# Altium footprint library SMPS150.PcbLib: 39 footprints (part 2 of 3)
Each footprint in its own frame and in the unit in brackets; x right, y up, seen from the top. Pads: shape width x height; smd on the part's side, far side on the other; paste and mask are expansions set on the pad; w line width, h text height; cw(c..) or ccw(c..) is an arc to the next point about the centre after c.
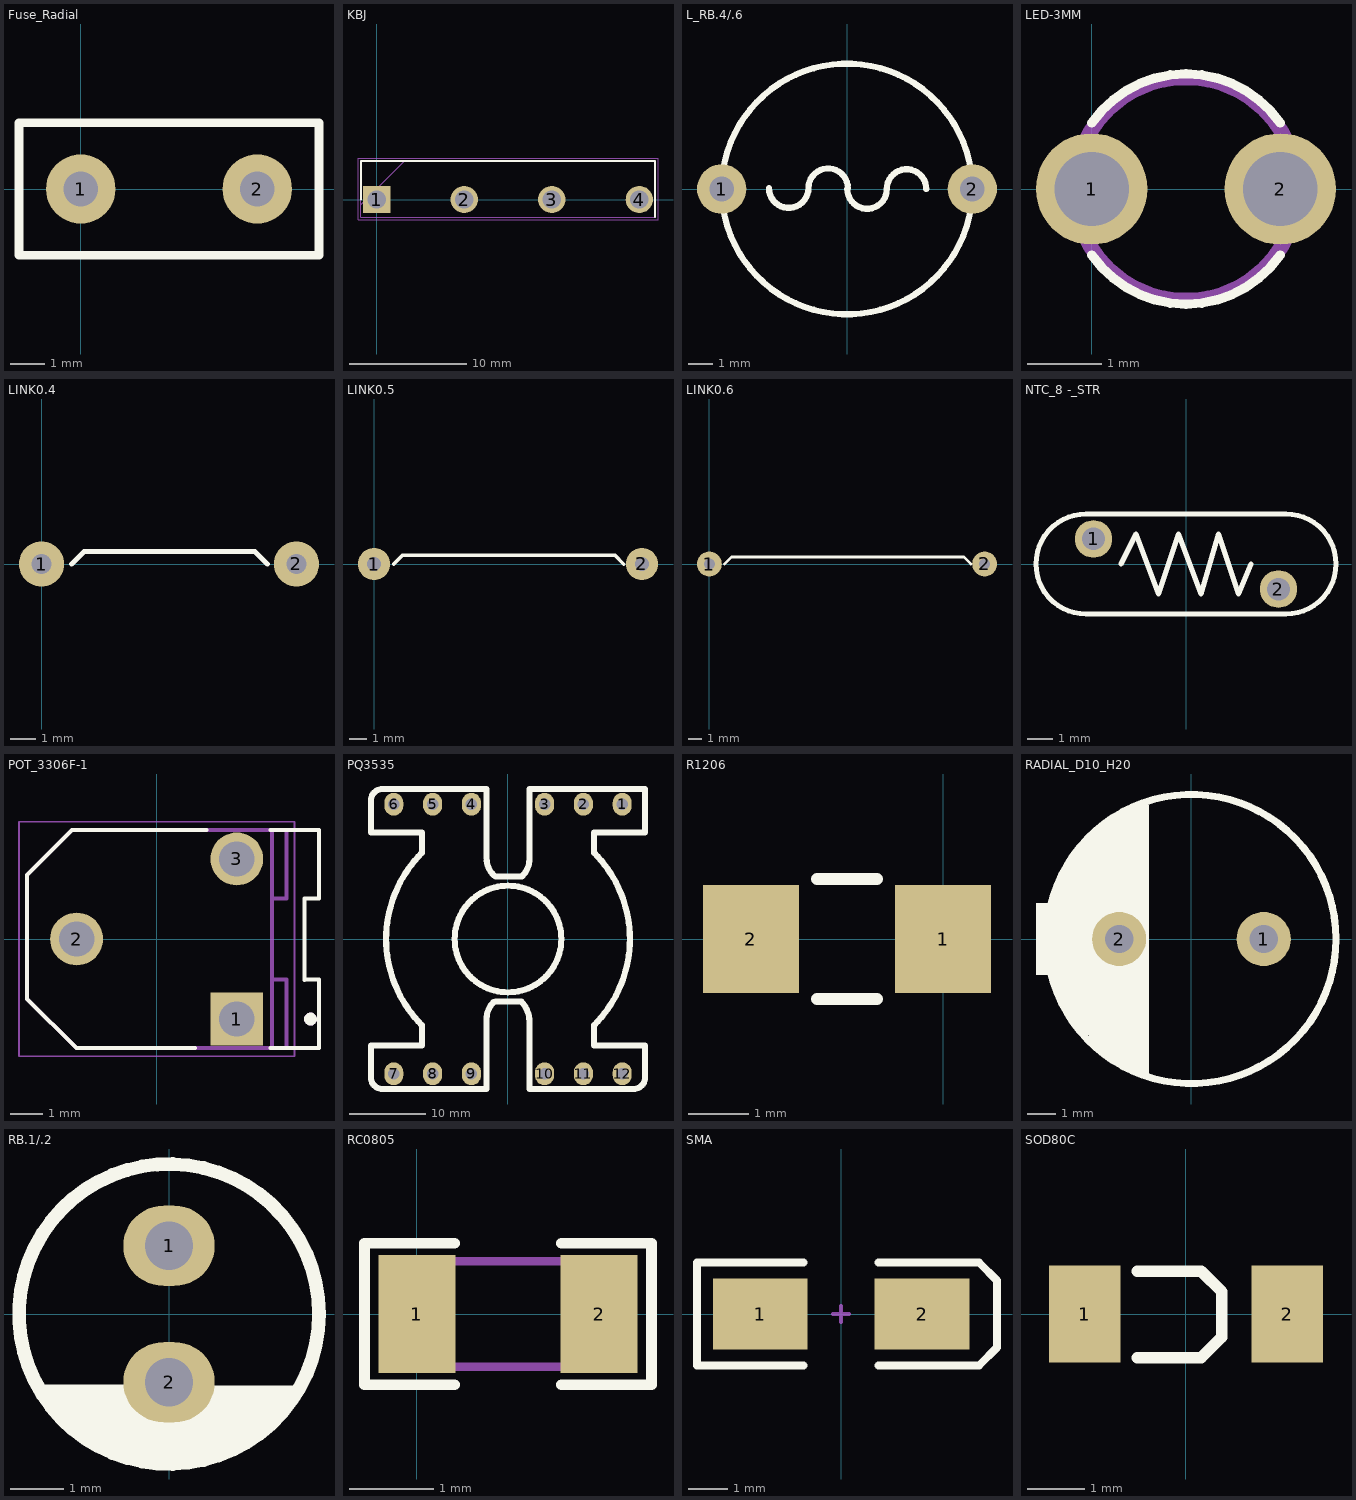
[diagram p1: the footprints below, top view; thin cyan lines are the x and y axes]

## Fuse_Radial [mm]
pads (2):
  round 2 hole 1: 1(0,0) 2(5.08,0)
Top Overlay:
  lines w0.254: -1.778,-1.905 6.858,-1.905 6.858,1.905 -1.778,1.905 -1.778,-1.905
3D body "Fuse 508 v1.step": height 3.5, standoff -8.3, extent -1.16,-2 6.24,2

## KBJ [mm]
height 1.35
pads (4):
  rect 2.34x2.34 hole 1.56: 1(0,0)
  round 2.34 hole 1.56: 2(7.5,0) 3(15,0) 4(22.5,0)
Top Overlay:
  lines w0.2: -1.35,0 -1.35,3.3 23.85,3.3 23.85,-1.5
Mechanical 13:
  lines w0.1: -1.35,-0.45 2.4,3.3 ; -1.35,-1.5 -1.35,3.3 23.85,3.3 23.85,-1.5 -1.35,-1.5
Mechanical 15:
  lines w0.05: -1.6,-1.75 -1.6,3.55 24.1,3.55 24.1,-1.75 -1.6,-1.75
3D body "User Library-KBJ.step": height 18.5, standoff -14, extent -1.324,-2.3 23.676,2.3

## L_RB.4/.6 [mm]
height 1.35
pads (2):
  round 2 hole 1: 1(-5.08,0) 2(5.08,0)
Top Overlay:
  circle w0.254: c0,0 r5.08
  lines w0.254: -3.164,0.033 ccw(c-2.364,0.033) -1.564,0.033 cw(c-0.764,0.033) 0.036,0.033 ; 0.013,0 ccw(c0.813,0) 1.613,0 cw(c2.413,0) 3.213,0

## LED-3MM [mm]
pads (2):
  round 1.5 hole 1: 1(0,0) 2(2.54,0)
Top Overlay:
  lines w0.127: 0,-0.889 ccw(c1.27,0) 2.54,-0.889 ; 0,0.889 cw(c1.27,0) 2.54,0.889
Mechanical 13:
  lines w0.2: -0.23,0 cw(c1.27,0) 2.77,0 cw(c1.27,0) -0.23,0
3D body "LED-3mm.STEP": height 5.8, standoff -20, extent -0.63,-1.646 3.17,2.154

## LINK0.4 [mm]
pads (2):
  round 1.8 hole 0.8: 1(0,0) 2(10.16,0)
Top Overlay:
  lines w0.2: 1.2,0 1.7,0.5 8.5,0.5 9,0

## LINK0.5 [mm]
pads (2):
  round 1.8 hole 0.8: 1(0,0) 2(15,0)
Top Overlay:
  lines w0.2: 1.1,0 1.6,0.5 13.47,0.5 13.987,-0.017

## LINK0.6 [mm]
pads (2):
  round 1.8 hole 0.8: 1(0,0) 2(20,0)
Top Overlay:
  lines w0.2: 1.1,0 1.6,0.5 18.5,0.5 19,0

## NTC_8 -_STR [mm]
height 1.35
pads (2):
  round 1.5 hole 0.9: 1(-3.7,1) 2(3.7,-1)
Top Overlay:
  lines w0.2: -2.6,0 -2,1.2 -1.1,-1.2 -0.3,1.2 0.6,-1.2 1.3,1.2 2.1,-1.2 2.6,0 ; -4,-2 cw(c-4,0) -4,2 4,2 cw(c4,0) 4,-2 -4,-2
3D body "User Library-S10K275.STEP": height 13, standoff -2.5, extent -6,-1.901 6,1.901

## POT_3306F-1 [mm]
height 1.35
pads (3):
  rect 1.65x1.65 hole 1.1: 1(2.5,-2.5)
  round 1.65 hole 1.1: 2(-2.5,0) 3(2.5,2.5)
Top Overlay:
  circle w0.2: c4.8,-2.5 r0.1
  lines w0.127: 1.2,-3.405 -2.51,-3.405 -4.05,-1.87 -4.05,2 -2.65,3.405 1.55,3.405 ; 3.556,-3.405 5.066,-3.405 5.066,-1.27 4.616,-1.27 ; 3.556,3.405 5.066,3.405 5.066,1.27 4.616,1.27 4.616,-1.27 ; 4.616,-1.28 4.616,-1.27
Mechanical 13:
  circle w0.2: c4.8,-2.5 r0.1
  lines w0.127: 3.6,-3.405 -2.51,-3.405 -4.05,-1.87 -4.05,2 -2.65,3.405 3.6,3.405 ; 3.6,-3.405 3.6,-1.27 ; 3.6,-3.405 4.05,-3.405 4.05,-1.27 3.6,-1.27 ; 3.6,-1.27 3.6,1.27 ; 3.6,1.27 3.6,3.405 ; 3.6,1.27 4.05,1.27 4.05,3.405 3.6,3.405
Mechanical 15:
  lines w0.05: -4.3,-3.655 4.3,-3.655 4.3,3.655 -4.3,3.655 -4.3,-3.655
3D body "3306f-1-102.stp": height 7.65, standoff -2.84, extent -3.048,-3.404 5.08,3.404

## PQ3535 [mm]
height 1.35
pads (12):
  oval 2.5x3 hole 1.5: 1(15,17.7) 2(9.9,17.7) 3(4.8,17.7) 4(-4.8,17.7) 5(-9.9,17.7) 6(-15,17.7) 7(-15,-17.7) 8(-9.9,-17.7) 9(-4.8,-17.7) 10(4.8,-17.7) 11(9.9,-17.7) 12(15,-17.7)
Top Overlay:
  circle w0.8: c0,0 r7
  lines w0.8: -11.314,-11.314 cw(c0,0) -11.314,11.314 -11.314,13.986 -17.986,13.986 cw(c-17.953,14.019) -18,14.019 -18,18.2 cw(c-16.5,18.2) -16.5,19.7 -2.8,19.7 -2.8,10.57 ccw(c0.266,10.57) -1.902,8.402 ccw(c-1.414,8.89) -1.414,8.2 0,8.2 1.659,8.2 ccw(c1.659,8.541) 1.9,8.3 1.902,8.302 ccw(c-0.266,10.47) 2.8,10.47 2.8,19.7 18,19.7 18,14.066 cw(c17.906,14.066) 17.973,14 11.3,14 11.3,11.327 ; -11.3,-11.327 -11.3,-14 -17.973,-14 ccw(c-17.906,-14.066) -18,-14.066 -18,-18.2 ccw(c-16.5,-18.2) -16.5,-19.7 -2.8,-19.7 -2.8,-10.47 cw(c0.266,-10.47) -1.902,-8.302 ; -1.659,-8.2 0,-8.2 1.75,-8.2 ; 1.75,-8.25 cw(c-0.785,-10.785) 2.8,-10.785 2.8,-19.7 16.5,-19.7 ccw(c16.5,-18.2) 18,-18.2 18,-14.019 ccw(c17.953,-14.019) 17.986,-13.986 11.314,-13.986 11.314,-11.314 ccw(c0,0) 11.314,11.314
3D body "PQ3535.STEP": height 38.8, standoff -6, extent -18.3,-19.5 18.3,19.5

## R1206 [mm]
height 1.35
pads (2):
  rect 1.6x1.8 smd: 1(0,0) 2(-3.2,0)
Top Overlay:
  lines w0.2: -2.1,-1 -1.1,-1 ; -2.1,1 -1.1,1
3D body "CRCW1206432KFKTA.stp": height 0.6, standoff 0, extent -3.125,-0.8 0.025,0.8

## RADIAL_D10_H20 [mm]
height 1.1
pads (2):
  round 1.905 hole 1: 1(2.54,0) 2(-2.54,0)
Top Overlay:
  circle w0.254: c0,0 r5.08
  rectangle: -5.461,-1.27 -4.889,1.27
  region: -1.5,4.7
  region: -1.5,4.7 -1.5,-4.796 -1.539,-4.834 -1.688,-4.834 -1.98,-4.776 -2.256,-4.662 -2.503,-4.497 -2.609,-4.391 -4.156,-2.844 -4.333,-2.667 -4.611,-2.251 -4.802,-1.789 -4.9,-1.298 -4.9,-1.048 -4.948,-1 -5.022,-0.889 -5.074,-0.764 -5.1,-0.632 -5.1,-0.565 -5.1,0.651 -5.1,0.853 -5.021,1.249 -4.867,1.622 -4.643,1.957 -4.5,2.1 -4.5,2.243 -4.444,2.523 -4.335,2.786 -4.177,3.023 -4.076,3.124 -3.183,4.017 -3.116,4.084 -2.957,4.19 -2.782,4.263 -2.595,4.3 -2.5,4.3 -2.405,4.395 -2.181,4.545 -1.933,4.648 -1.669,4.7 -1.534,4.7
3D body "Aluminum_electrolytic_capacitor_radial_D10_H20_PinD0.6_Pitch5_nominal_black.step": height 20, standoff -3, extent -5,-5 5,5

## RB.1/.2 [mm]
pads (2):
  oval 1.7x1.5 hole 0.9: 1(0,1.27) 2(0,-1.27)
Top Overlay:
  circle w0.254: c0,0 r2.794
  region: -2.457,-1.305 -2.029,-1.732 -2.001,-1.763 -1.955,-1.832 -1.923,-1.909 -1.907,-1.99 -1.905,-2.032 -1.887,-2.05 -1.71,-2.227 -1.294,-2.505 -0.832,-2.696 -0.341,-2.794 -0.091,-2.794 0.091,-2.794 0.341,-2.794 0.832,-2.696 1.294,-2.505 1.71,-2.227 1.887,-2.05 2.238,-1.699 2.274,-1.663 2.329,-1.581 2.367,-1.488 2.387,-1.391 2.387,-1.341
  region: 2.413,-0.762
3D body "Aluminum_electrolytic_capacitor_radial_D6.3_H11_PinD0.5_Pitch2.5_nominal_black.step": height 11, standoff -3, extent -3.122,-3.149 3.172,3.139

## RC0805 [mil]
height 53.15
pads (2):
  rect 36x55 smd: 1(0,0) 2(85,0)
Top Overlay:
  lines w5: 17.5,-33 -24.5,-33 -24.5,33 17.5,33 ; 67.5,-33 109.5,-33 109.5,33 67.5,33
Mechanical 13:
  lines w3.94: 2.15,-24.61 2.15,24.61 82.85,24.61 82.85,-24.61 2.15,-24.61
3D body "CRCW0805576RFKEA.stp": height 19.68, standoff 0, extent 2.15,-24.61 82.85,24.61

## SMA [mm] "DO-214-AC/SMA; 2 C-Bend Leads; Body 5 x 2.7 mm, inc. leads (LxW)"
height 2.44
pads (2):
  rect 2.4x1.8 smd: 1(-2.05,0) 2(2.05,0)
Top Overlay:
  lines w0.2: -0.95,-1.3 -3.65,-1.3 -3.65,1.3 -0.95,1.3 ; 0.95,-1.3 3.5,-1.3 3.95,-0.85 3.95,0.85 3.5,1.3 0.95,1.3
Mechanical 1:
  lines w0.1: -0.2,0 0.2,0 ; 0,-0.2 0,0.2
3D body "MRA4005T1G.stp": height 2.2, standoff 0, extent -2.605,-1.303 2.605,1.302

## SOD80C [mm] "Metal Electrode Face (MELF) Diode; Body 3.5 x 1.6 mm (LxDia)"
height 1.6
pads (2):
  rect 1.25x1.7 smd: 1(-1.775,0) 2(1.775,0)
Top Overlay:
  lines w0.2: -0.851,-0.767 0.265,-0.767 0.627,-0.405 0.627,-0.017 ; -0.85,0.75 0.266,0.75 0.628,0.388 0.628,0
3D body "User Library-MiniMelf-2.STEP": height 1.6, standoff 0, extent -1.82,-0.8 1.88,0.8